# EAGLE library part PCM5102A (library Harrington-ICs v130)
Audio I2S DAC Texas Instruments - Sterio / 2-channel - 32bit PCM
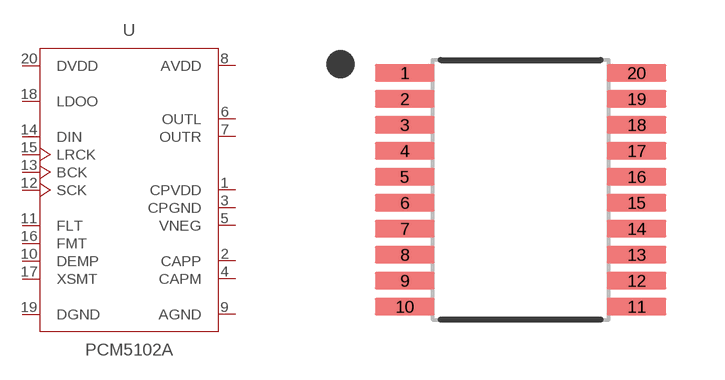
[diagram p12: symbol with the pads of TSSOP-20; footprint TSSOP-20]

Designator prefix U

## PCM5102A  [TSSOP-20]
1  CPVDD  pwr
2  CAPP  out
3  CPGND  pwr
4  CAPM  out
5  VNEG  out
6  OUTL  out
7  OUTR  out
8  AVDD  pwr
9  AGND  pwr
10  DEMP  in
11  FLT  in
12  SCK  in
13  BCK  in
14  DIN  in
15  LRCK  in
16  FMT  in
17  XSMT  in
18  LDOO  pwr
19  DGND  pwr
20  DVDD  pwr

## Footprint TSSOP-20 (pad centres in mm)
smd 1.5 x 0.45: 1 -2.9,2.925; 2 -2.9,2.275; 3 -2.9,1.625; 4 -2.9,0.975; 5 -2.9,0.325; 6 -2.9,-0.325; 7 -2.9,-0.975; 8 -2.9,-1.625; 9 -2.9,-2.275; 10 -2.9,-2.925; 11 2.9,-2.925; 12 2.9,-2.275; 13 2.9,-1.625; 14 2.9,-0.975; 15 2.9,-0.325; 16 2.9,0.325; 17 2.9,0.975; 18 2.9,1.625; 19 2.9,2.275; 20 2.9,2.925